# Altium schematic symbol library Schlib1.SchLib: 4 symbols
Pins are listed as number, name and electrical type; pins without a type are passive.

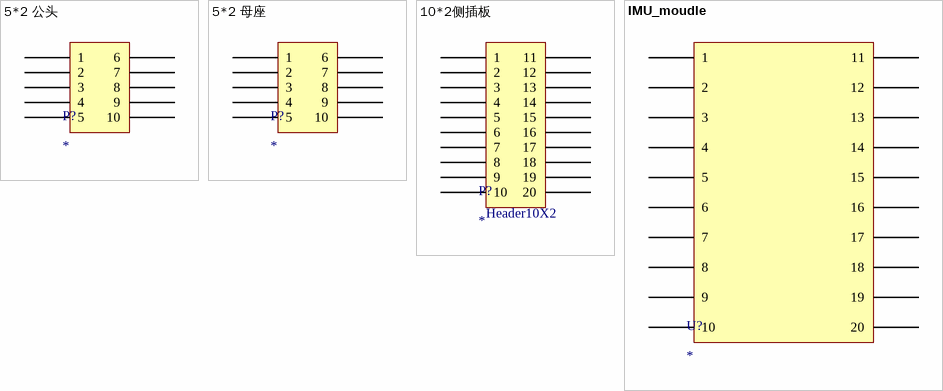
[diagram p0: symbols 5*2 公头 to IMU_moudle]

## 5*2 公头
designator P?
footprint 10pin 公头 (0.5mm间距，180度接插件)
pins: 1, 2, 3, 4, 5, 6, 7, 8, 9, 10

## 5*2 母座
designator P?
footprint 10PIN 母座 (0.5间距，合高1.5，2.5，3.5)
pins: 1, 2, 3, 4, 5, 6, 7, 8, 9, 10

## 10*2侧插板
designator P?
footprint PCBComponent_1
pins: 1, 2, 3, 4, 5, 6, 7, 8, 9, 10, 11, 12, 13, 14, 15, 16, 17, 18, 19, 20
text: Header10X2

## IMU_moudle
designator U?
footprint IMU_moudle
pins: 1, 2, 3, 4, 5, 6, 7, 8, 9, 10, 11, 12, 13, 14, 15, 16, 17, 18, 19, 20